# Altium footprint library footprint_library.PcbLib: 32 footprints (part 1 of 2)
Each footprint in its own frame and in the unit in brackets; x right, y up, seen from the top. Pads: shape width x height; smd on the part's side, far side on the other; paste and mask are expansions set on the pad; w line width, h text height; cw(c..) or ccw(c..) is an arc to the next point about the centre after c.
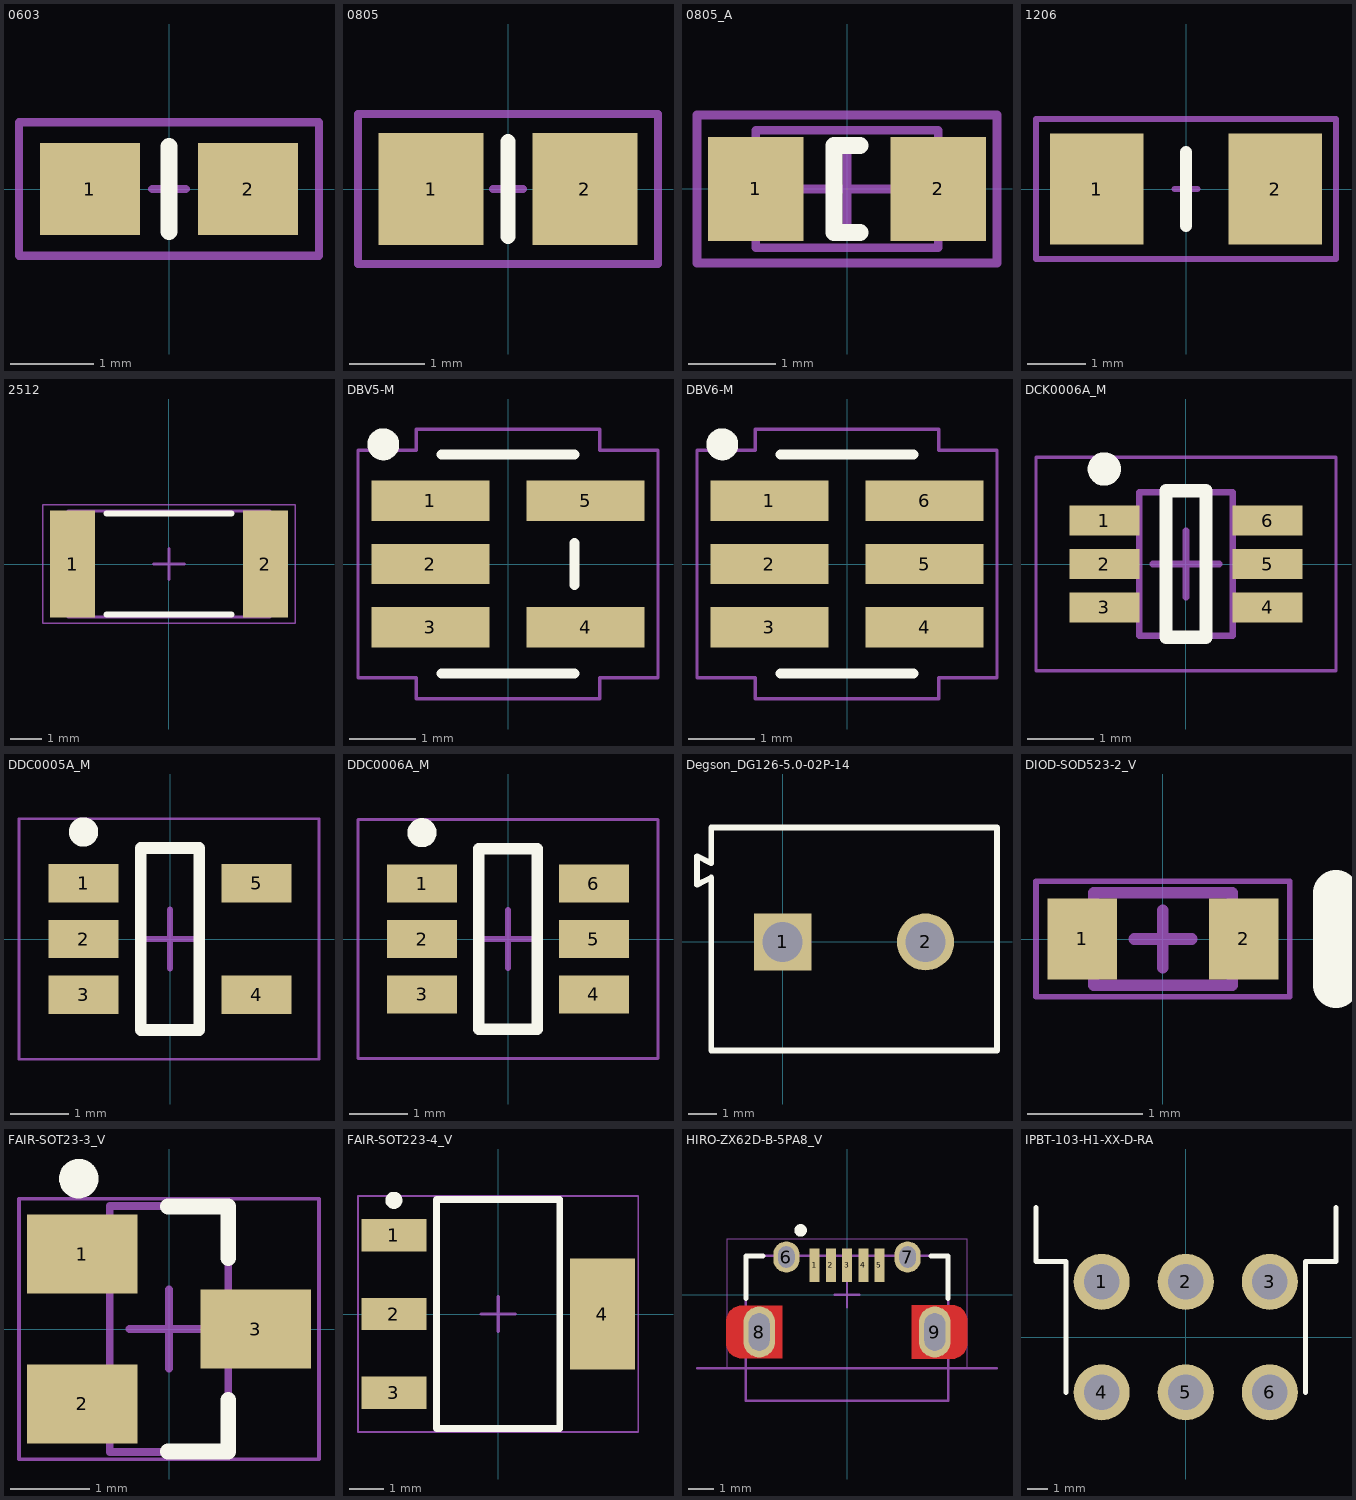
[diagram p0: the footprints below, top view; thin cyan lines are the x and y axes]

## 0603 [mm] "0603 - Based on VIshey Recommendations"
height 0.762
pads (2):
  rect 1.2x1.1 smd mask+0.1: 1(-0.95,0) 2(0.95,0)
Top Overlay:
  lines w0.203: 0,-0.508 0,0.508
Mechanical 15:
  lines w0.102: -0.2,0 0.2,0 ; 0,-0.2 0,0.2 ; -1.8,-0.8 -1.8,0.8 1.8,0.8 1.8,-0.8 -1.8,-0.8
3D body: height 0.76, standoff 0, extent -0.8,-0.4 0.8,0.4

## 0805 [mm] "0805 - Based on VIshey Recommendations"
height 1.016
pads (2):
  rect 1.4x1.5 smd mask+0.1: 1(-1.025,0) 2(1.025,0)
Top Overlay:
  lines w0.203: 0,-0.635 0,0.635
Mechanical 15:
  lines w0.102: -0.2,0 0,0 ; 0,-0.2 0,0 ; 0,0.2 0,0 ; 0.2,0 0,0 ; -2,-1 2,-1 2,1 -2,1 -2,-1
3D body: height 1.02, standoff 0, extent -1,-0.625 1,0.625

## 0805_A [mm] "Chip LED, 2-Leads, Body 2.0x1.3mm, IPC Medium Density"
height 0.8
pads (2):
  rect 1.1x1.2 smd: 1(-1.05,0) 2(1.05,0)
Top Overlay:
  lines w0.2: 0.15,-0.5 -0.15,-0.5 -0.15,0.5 0.15,0.5
Mechanical 13:
  lines w0.1: -1.05,-0.675 -1.05,0.675 1.05,0.675 1.05,-0.675 -1.05,-0.675
Mechanical 15:
  lines w0.1: -0.5,0 0.5,0 ; 0,-0.5 0,0.5 ; -1.725,-0.85 -1.725,0.85 1.725,0.85 1.725,-0.85 -1.725,-0.85
3D body "WL-SMCW_0805_LED.stp": height 0.68, standoff -0.02, extent -1,-0.625 1,0.625

## 1206 [mm] "1206 - Based on VIshey Recommendations"
height 1.016
pads (2):
  rect 1.6x1.9 smd mask+0.1: 1(-1.524,0) 2(1.524,0)
Top Overlay:
  lines w0.203: 0,-0.635 0,0.635
Mechanical 15:
  lines w0.102: -0.2,0 0,0 ; 0,-0.2 0,0 ; 0,0.2 0,0 ; 0.2,0 0,0 ; -2.565,-1.194 2.565,-1.194 2.565,1.194 -2.565,1.194 -2.565,-1.194
3D body: height 1.6, standoff 0, extent -1.6,-0.787 1.6,0.787

## 2512 [mm] "Chip Resistor, Body 6.4x3.2mm, IPC Low Density"
height 0.75
pads (2):
  rect 1.45x3.45 smd: 1(-3.1,0) 2(3.1,0)
Top Overlay:
  lines w0.2: -2,-1.625 2,-1.625 ; -2,1.625 2,1.625
Mechanical 13:
  lines w0.1: -3.25,-1.7 -3.25,1.7 3.25,1.7 3.25,-1.7 -3.25,-1.7
Mechanical 15:
  lines w0.05: -4.064,-1.905 -4.064,1.905 4.064,1.905 4.064,-1.905 -4.064,-1.905
  lines w0.1: -0.5,0 0.5,0 ; 0,-0.5 0,0.5
3D body: height 0.75, standoff 0, extent -3.25,-1.7 -2.63,1.7
3D body: height 0.75, standoff 0, extent -2.63,-1.7 2.63,1.7
3D body: height 0.75, standoff 0, extent 2.63,-1.7 3.25,1.7

## DBV5-M [mil]
pads (5):
  rect 70x24 smd paste+0 mask+2: 1(-46,37.4) 2(-46,0) 3(-46,-37.4) 4(46,-37.4) 5(46,37.4)
Top Overlay:
  circle w10: c-74,71 r4.47
  lines w6: -39.5,-65 39.5,-65 ; -39.5,65 39.5,65 ; 39.5,-12.3 39.5,12.3
Mechanical 13:
  lines w1: -59,-47.4 -34.5,-47.4 -34.5,-27.4 -59,-27.4 -59,-47.4 ; -59,-10 -34.5,-10 -34.5,10 -59,10 -59,-10 ; -59,27.4 -34.5,27.4 -34.5,47.4 -59,47.4 -59,27.4 ; 34.5,-47.4 59,-47.4 59,-27.4 34.5,-27.4 34.5,-47.4 ; 34.5,27.4 59,27.4 59,47.4 34.5,47.4 34.5,27.4
Mechanical 15:
  lines w2: -89,-67.4 -89,67.4 -54.5,67.4 -54.5,80 54.5,80 54.5,67.4 89,67.4 89,-67.4 54.5,-67.4 54.5,-80 -54.5,-80 -54.5,-67.4 -89,-67.4
3D body "DBV5-M.stp": height 57.09, standoff 0, extent -59.01,-59.99 59.02,60.01

## DBV6-M [mil]
pads (6):
  rect 70x24 smd paste+0 mask+2: 1(-46,37.4) 2(-46,0) 3(-46,-37.4) 4(46,-37.4) 5(46,0) 6(46,37.4)
Top Overlay:
  circle w10: c-74,71 r4.47
  lines w6: -39.5,-65 39.5,-65 ; -39.5,65 39.5,65
Mechanical 13:
  lines w1: -59,-47.4 -59,-27.4 -34.5,-27.4 -34.5,-47.4 -59,-47.4 ; -59,-10 -59,10 -34.5,10 -34.5,-10 -59,-10 ; -59,27.4 -59,47.4 -34.5,47.4 -34.5,27.4 -59,27.4 ; 34.5,-47.4 34.5,-27.4 59,-27.4 59,-47.4 34.5,-47.4 ; 34.5,27.4 34.5,47.4 59,47.4 59,27.4 34.5,27.4
Mechanical 15:
  lines w2: -89,-67.4 -54.5,-67.4 -54.5,-80 54.5,-80 54.5,-67.4 89,-67.4 89,67.4 54.5,67.4 54.5,80 -54.5,80 -54.5,67.4 -89,67.4 -89,-67.4
3D body "DBV5-M.stp": height 57.09, standoff 0, extent -59.01,-59.99 59.02,60.01

## DCK0006A_M [mm] "SOT23, 6-Leads, Body 2.15x1.4mm, Pitch 0.65mm, IPC Low Density"
height 1.1
pads (6):
  rect 1.05x0.45 smd mask+0.046: 1(-1.225,0.65) 2(-1.225,0) 3(-1.225,-0.65) 4(1.225,-0.65) 5(1.225,0) 6(1.225,0.65)
Top Overlay:
  circle w0.25: c-1.225,1.425 r0.125
  lines w0.2: -0.3,-1.1 0.3,-1.1 0.3,1.1 -0.3,1.1 -0.3,-1.1
Mechanical 13:
  lines w0.1: -0.7,-1.075 -0.7,1.075 0.7,1.075 0.7,-1.075 -0.7,-1.075
Mechanical 15:
  lines w0.05: -2.25,-1.6 -2.25,1.6 2.25,1.6 2.25,-1.6 -2.25,-1.6
  lines w0.1: -0.5,0 0.5,0 ; 0,-0.5 0,0.5
3D body "DCK0006AakaMAA06.stp": height 0.94, standoff -0.01, extent -1.14,-1 1.14,1

## DDC0005A_M [mm] "SOT23, 5-Leads, Body 3.05x1.75mm, Pitch 0.95mm, IPC Low Density"
height 1.1
pads (5):
  rect 1.2x0.65 smd mask+0.076: 1(-1.475,0.95) 2(-1.475,0) 3(-1.475,-0.95) 4(1.475,-0.95) 5(1.475,0.95)
Top Overlay:
  circle w0.25: c-1.475,1.825 r0.125
  lines w0.2: -0.5,-1.55 0.5,-1.55 0.5,1.55 -0.5,1.55 -0.5,-1.55
Mechanical 15:
  lines w0.05: -2.575,-2.05 -2.575,2.05 2.54,2.05 2.54,-2.05 -2.575,-2.05
  lines w0.1: -0.5,0 0.5,0 ; 0,-0.5 0,0.5
3D body "DBV5-M.stp": height 1.45, standoff 0, extent -1.499,-1.524 1.499,1.524

## DDC0006A_M [mm] "SOT23, 6-Leads, Body 3.05x1.75mm, Pitch 0.95mm, IPC Low Density"
height 1.1
pads (6):
  rect 1.2x0.65 smd mask+0.076: 1(-1.475,0.95) 2(-1.475,0) 3(-1.475,-0.95) 4(1.475,-0.95) 5(1.475,0) 6(1.475,0.95)
Top Overlay:
  circle w0.25: c-1.475,1.825 r0.125
  lines w0.2: -0.5,-1.55 -0.5,1.55 0.5,1.55 0.5,-1.55 -0.5,-1.55
Mechanical 15:
  lines w0.05: -2.575,-2.05 2.575,-2.05 2.575,2.05 -2.575,2.05 -2.575,-2.05
  lines w0.1: -0.5,0 0.5,0 ; 0,-0.5 0,0.5
3D body "DDC0006A.stp": height 0.9, standoff -0.02, extent -1.434,-1.485 1.434,1.485

## Degson_DG126-5.0-02P-14 [mm]
height 10.2
pads (2):
  rect 2x2 hole 1.4 mask+0.102: 1(0,0)
  round 2 hole 1.4 mask+0.102: 2(5,0)
Top Overlay:
  lines w0.2: -3,2 -3,3 -2.5,2.75 -2.5,4 7.5,4 7.5,-3.8 -2.5,-3.8 -2.5,2.25 -3,2

## DIOD-SOD523-2_V [mm] "SOD523, 2-Leads, Body 1.2x0.8mm"
height 0.65
pads (2):
  rect 0.6x0.7 smd: 1(-0.7,0) 2(0.7,0)
Top Overlay:
  lines w0.4: 1.5,-0.4 1.5,0.4
Mechanical 13:
  lines w0.1: -0.6,-0.4 0.6,-0.4 0.6,0.4 -0.6,0.4 -0.6,-0.4
Mechanical 15:
  lines w0.05: -1.1,-0.5 1.1,-0.5 1.1,0.5 -1.1,0.5 -1.1,-0.5
  lines w0.1: -0.25,0 0.25,0 ; 0,-0.25 0,0.25
3D body "SODFL_DIOD-SOD523-2.stp": height 0.65, standoff 0, extent -0.8,-0.4 0.8,0.4

## FAIR-SOT23-3_V [mm] "SOT23, 3-Leads, Body 3.12x1.5mm, Pitch 0.95mm"
height 1.2
pads (3):
  rect 1.4x1 smd: 1(-1.1,0.95) 2(-1.1,-0.95) 3(1.1,0)
Top Overlay:
  circle w0.25: c-1.143,1.905 r0.125
  lines w0.2: -0.013,-1.55 0.75,-1.55 0.75,-0.9 ; -0.013,1.55 0.75,1.55 0.75,0.9
Mechanical 13:
  lines w0.1: -0.75,-1.56 -0.75,1.56 0.75,1.56 0.75,-1.56 -0.75,-1.56
Mechanical 15:
  lines w0.05: -1.9,-1.65 -1.9,1.65 1.9,1.65 1.9,-1.65 -1.9,-1.65
  lines w0.1: -0.5,0 0.5,0 ; 0,-0.5 0,0.5
3D body "SOT95P240X120-3L.step": height 1.2, standoff 0, extent -1.35,-1.56 1.35,1.56

## FAIR-SOT223-4_V [mm] "SOT223, 4-Leads, Body 6.7x3.7mm, Pitch 2.3mm"
height 1.8
pads (4):
  rect 1.9x0.95 smd mask+0.076: 1(-3.05,2.3) 2(-3.05,0) 3(-3.05,-2.3)
  rect 1.9x3.25 smd mask+0.076: 4(3.05,0)
Top Overlay:
  circle w0.25: c-3.05,3.325 r0.125
  lines w0.2: -1.8,-3.35 -1.8,3.35 1.8,3.35 1.8,-3.35 -1.8,-3.35
Mechanical 13:
  lines w0.1: -1.85,-3.35 -1.85,3.35 1.85,3.35 1.85,-3.35 -1.85,-3.35
Mechanical 15:
  lines w0.05: -4.1,-3.45 -4.1,3.45 4.1,3.45 4.1,-3.45 -4.1,-3.45
  lines w0.1: -0.5,0 0.5,0 ; 0,-0.5 0,0.5
3D body "SOT230P700X180-4L.step": height 1.8, standoff 0, extent -3.5,-3.35 3.5,3.35

## HIRO-ZX62D-B-5PA8_V [mm] "SMD, 5-Leads, Body 7.5x5mm, Pitch 0.65mm"
height 2.8
pads (9):
  rect 0.4x1.35 smd mask+0.051: 1(-1.3,1.175) 2(-0.65,1.175) 3(0,1.175) 4(0.65,1.175) 5(1.3,1.175)
  oval 1.05x1.25 hole 0.65 slot 0.85 at 90 deg mask+0.076: 6(-2.425,1.5) 7(2.425,1.5)
  oval 1.27x2.032 hole 0.825 slot 1.5 at 90 deg: 8(-3.512,-1.5) 9(3.512,-1.5)
Top Layer:
  region: 4.2,-2.45 4.299,-2.45 4.483,-2.374 4.624,-2.233 4.7,-2.049 4.7,-1.95 4.7,-1.05 4.7,-0.951 4.624,-0.767 4.483,-0.626 4.299,-0.55 4.2,-0.55 2.6,-0.55 2.6,-2.45
  region: -4.2,-2.45 -4.299,-2.45 -4.483,-2.374 -4.624,-2.233 -4.7,-2.049 -4.7,-1.95 -4.7,-1.05 -4.7,-0.951 -4.624,-0.767 -4.483,-0.626 -4.299,-0.55 -4.2,-0.55 -2.6,-0.55 -2.6,-2.45
  region: -4.2,-2.54 -4.314,-2.544 -4.53,-2.47 -4.704,-2.321 -4.812,-2.12 -4.826,-2.007 -4.826,-1.016 -4.816,-0.9 -4.711,-0.691 -4.536,-0.535 -4.317,-0.454 -4.2,-0.457 -2.6,-0.457 -2.6,-2.54
  region: 4.2,-2.565 4.314,-2.564 4.524,-2.479 4.691,-2.324 4.791,-2.12 4.801,-2.007 4.801,-0.991 4.792,-0.877 4.693,-0.672 4.526,-0.516 4.314,-0.432 4.2,-0.432 2.6,-0.432 2.6,-2.565
Top Overlay:
  circle w0.25: c-1.854,2.565 r0.125
  lines w0.2: -4.047,-0.15 -4.047,1.55 -3.35,1.55 ; 3.35,1.55 4.047,1.55 4.047,-0.15
Top Paste:
  region: 2.95,1.4 2.95,1.296 2.87,1.103 2.722,0.955 2.529,0.875 2.321,0.875 2.128,0.955 1.98,1.103 1.9,1.296 1.9,1.4 1.9,1.6 1.9,1.704 1.98,1.897 2.128,2.045 2.321,2.125 2.529,2.125 2.722,2.045 2.87,1.897 2.95,1.704 2.95,1.6
  region: -2.95,1.4 -2.95,1.296 -2.87,1.103 -2.722,0.955 -2.529,0.875 -2.321,0.875 -2.128,0.955 -1.98,1.103 -1.9,1.296 -1.9,1.4 -1.9,1.6 -1.9,1.704 -1.98,1.897 -2.128,2.045 -2.321,2.125 -2.529,2.125 -2.722,2.045 -2.87,1.897 -2.95,1.704 -2.95,1.6
Mechanical 1:
  lines w0.1: -6,-2.95 -5.4,-2.95 -5.1,-2.95 -5,-2.95 6,-2.95
Mechanical 13:
  lines w0.1: -4.047,-4.25 -4.047,1.55 4.047,1.55 4.047,-4.25 -4.047,-4.25
Mechanical 15:
  lines w0.05: -4.8,-2.946 4.8,-2.946 4.8,2.225 -4.8,2.225 -4.8,-2.946
  lines w0.1: -0.5,0 0.5,0 ; 0,-0.5 0,0.5
3D body "ZX62D-B-5PA8.stp": height 2.75, standoff -0.7, extent -4.047,-4.25 4.047,1.55

## IPBT-103-H1-XX-D-RA [mil]
pads (6):
  round 110 hole 70 mask+3: 1(-165,108.5) 2(0,108.5) 3(165,108.5) 4(-165,-108.5) 5(0,-108.5) 6(165,-108.5)
Top Overlay:
  lines w10: -294,254 -294,148.5 -235,148.5 -235,-108.5 ; 235,-108.5 235,148.5 295,148.5 295,254
3D body "IPBT-103-H1-T-D-RA-K.stp": height 439, standoff -159, extent -273.99,-131 274.01,573.5